# Altium schematic symbol library TS5A4624.SchLib: 1 symbol
Pins are listed as number, name and electrical type; pins without a type are passive.

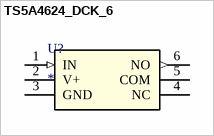
[diagram p0: symbol TS5A4624_DCK_6]

## TS5A4624_DCK_6
designator U?
1-Ω SPDT ANALOG SWITCH 5-V/3.3-V SINGLE-CHANNEL 2:1 MULTIPLEXER/DEMULTIPLEXER; Manufacturer_Part_Number: ts5a4624_dck_6; GENERIC_PART_NUMBER: TS5A4624; Vendor: Texas Instruments; PACKAGE_DESIGNATOR: DCK; PIN_COUNT: 6; FAMILY_NAME: ANALOG SWITCH OR MULTIPLEXER (less than or equal to 5V); INDUSTRY_STD_PKG_TYPE: SC70; Manufacturer: Texas Instruments; Datasheet_URL: http://www.ti.com/lit/gpn/TS5A4624; Value: Value; Type: Type; RefDes: RefDes
footprint DCK6
pins: 1 IN (in), 2 V+ (power), 3 GND (power), 4 NC, 5 COM, 6 NO (out)